# EAGLE library part MICROCHIP-93LC56BT (library EagleLibrary)
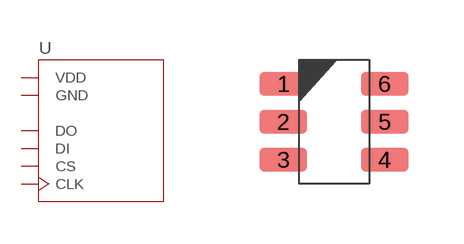
[diagram p35: symbol with the pads of MICROCHIP-93LC56BT-I/OT; footprint MICROCHIP-93LC56BT-I/OT]

Designator prefix U

## MICROCHIP-93LC56BT (MFG: Microchip)  [MICROCHIP-93LC56BT-I/OT]
1  DO
2  GND
3  DI
4  CLK
5  CS
6  VDD

## Footprint MICROCHIP-93LC56BT-I/OT (pad centres in mm)
6-SOT23, 0.95 mm pitch, 2.80 mm span, 2.95 X 1.63 X 1.45 mm body 6-pin SOT23 package with 0.95 mm pitch, 2.80 mm span with body size 2.95 X 1.63 X 1.45 mm
smd 1.186 x 0.597: 1 -1.264,0.95; 2 -1.264,0; 3 -1.264,-0.95; 4 1.264,-0.95; 5 1.264,0; 6 1.264,0.95